# Altium footprint library Drosel.PcbLib: 92 footprints (part 5 of 6)
Each footprint in its own frame and in the unit in brackets; x right, y up, seen from the top. Pads: shape width x height; smd on the part's side, far side on the other; paste and mask are expansions set on the pad; w line width, h text height; cw(c..) or ccw(c..) is an arc to the next point about the centre after c.
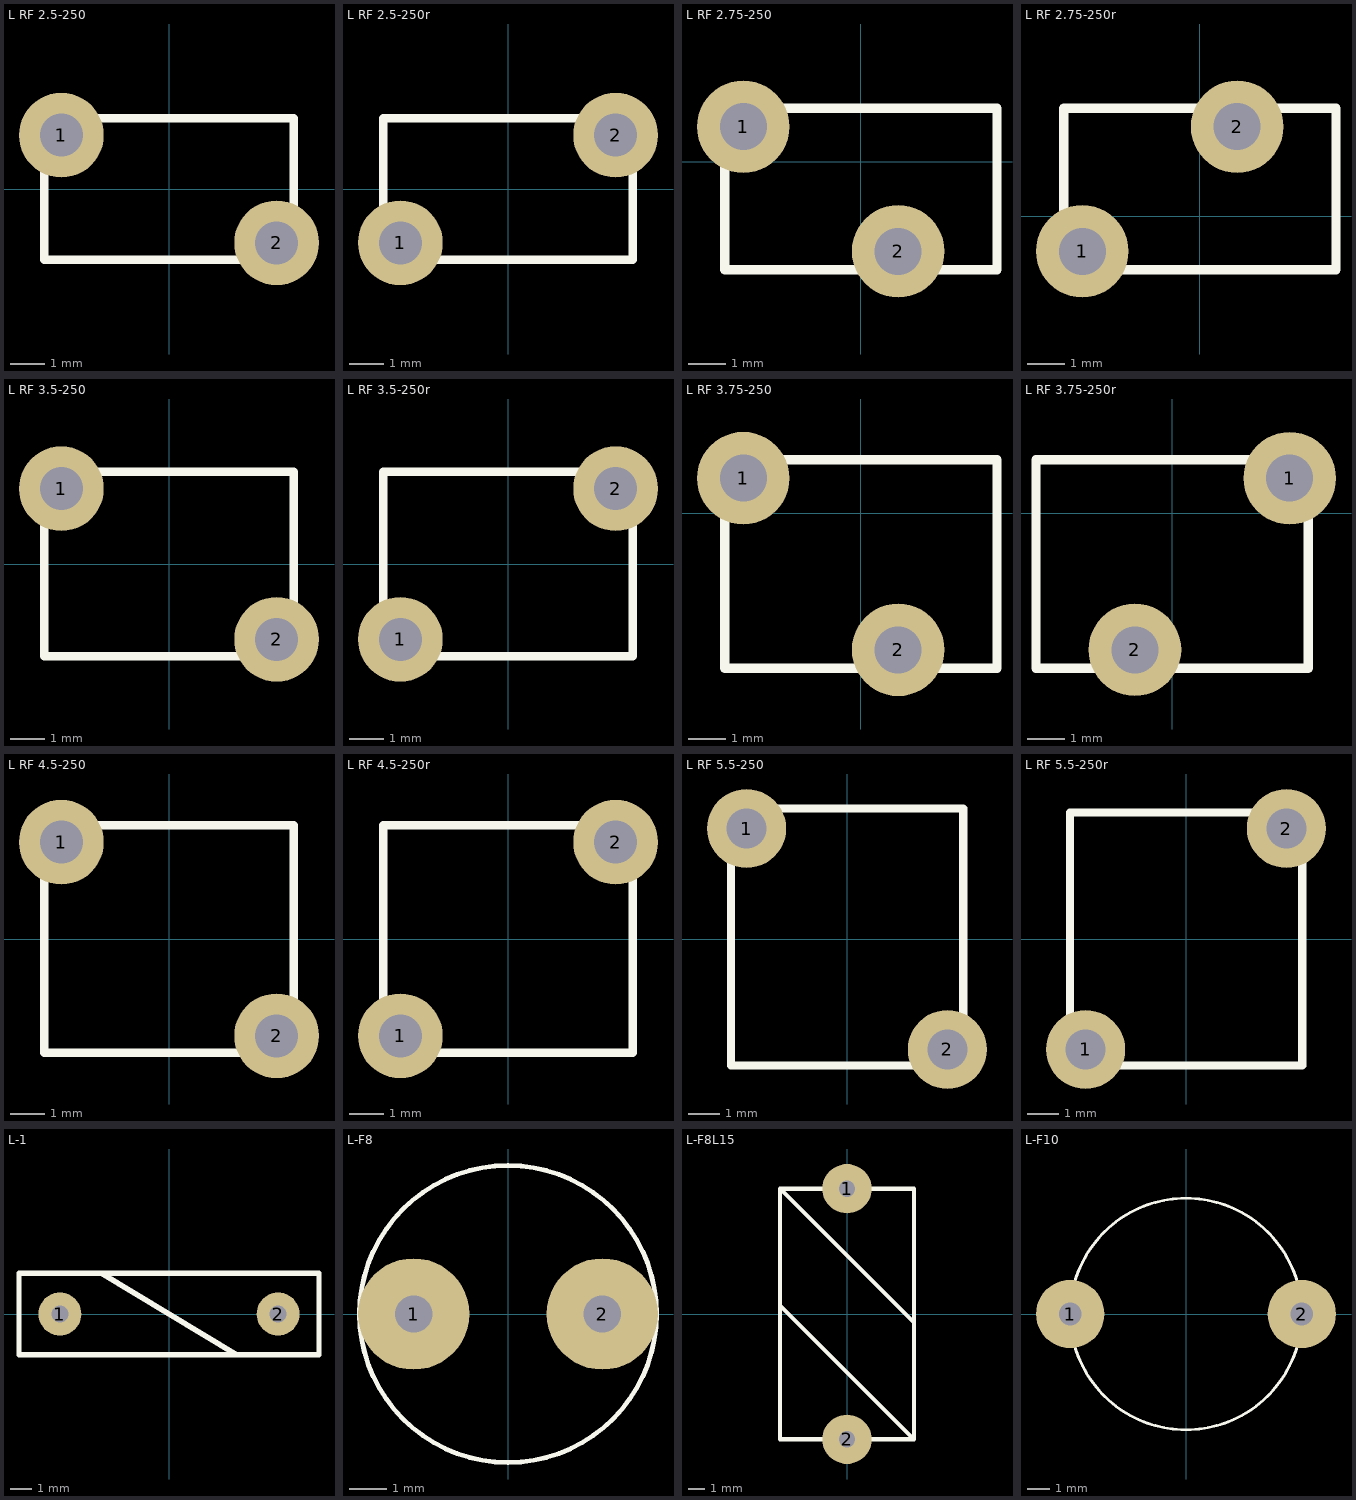
[diagram p4: the footprints below, top view; thin cyan lines are the x and y axes]

## L RF 2.5-250 [mm]
pads (2):
  round 2.5 hole 1.27: 1(-3.175,1.587) 2(3.175,-1.587)
Top Overlay:
  lines w0.254: -3.675,-2.087 3.675,-2.087 3.675,2.088 -3.675,2.088 -3.675,-2.087
3D body: height 7.67, standoff -5, extent -3.675,-2.087 3.675,2.088

## L RF 2.5-250r [mm]
pads (2):
  round 2.5 hole 1.27: 1(-3.175,-1.587) 2(3.175,1.587)
Top Overlay:
  lines w0.254: -3.675,-2.087 -3.675,2.088 3.675,2.088 3.675,-2.087 -3.675,-2.087
3D body: height 7.67, standoff -5, extent -3.675,-2.087 3.675,2.088

## L RF 2.75-250 [mm]
pads (2):
  round 2.5 hole 1.27: 1(-3.175,0.953) 2(1.003,-2.413)
Top Overlay:
  lines w0.254: -3.675,-2.912 -3.675,1.453 3.674,1.453 3.674,-2.912 -3.675,-2.912
3D body: height 7.67, standoff -3.47, extent -3.675,-2.912 3.674,1.452

## L RF 2.75-250r [mm]
pads (2):
  round 2.5 hole 1.27: 1(-3.175,-0.953) 2(1.003,2.413)
Top Overlay:
  lines w0.254: -3.675,-1.452 -3.675,2.912 3.674,2.912 3.674,-1.452 -3.675,-1.452
3D body: height 7.67, standoff -3.47, extent -3.675,-1.452 3.674,2.912

## L RF 3.5-250 [mm]
pads (2):
  round 2.5 hole 1.27: 1(-3.175,2.222) 2(3.175,-2.222)
Top Overlay:
  lines w0.254: -3.675,-2.722 -3.675,2.723 3.675,2.723 3.675,-2.722 -3.675,-2.722
3D body: height 7.67, standoff -5, extent -3.675,-2.722 3.675,2.723

## L RF 3.5-250r [mm]
pads (2):
  round 2.5 hole 1.27: 1(-3.175,-2.222) 2(3.175,2.222)
Top Overlay:
  lines w0.254: -3.675,-2.722 -3.675,2.723 3.675,2.723 3.675,-2.722 -3.675,-2.722
3D body: height 7.67, standoff -5, extent -3.675,-2.722 3.675,2.723

## L RF 3.75-250 [mm]
pads (2):
  round 2.5 hole 1.27: 1(-3.175,0.953) 2(1.003,-3.683)
Top Overlay:
  lines w0.254: -3.675,-4.182 -3.675,1.452 3.674,1.452 3.674,-4.182 -3.675,-4.182
3D body: height 7.67, standoff -3.47, extent -3.675,-4.182 3.674,1.452

## L RF 3.75-250r [mm]
pads (2):
  round 2.5 hole 1.27: 1(3.175,0.953) 2(-1.003,-3.683)
Top Overlay:
  lines w0.254: -3.675,-4.182 -3.675,1.452 3.674,1.452 3.674,-4.182 -3.675,-4.182
3D body: height 3.67, standoff -7.47, extent -3.674,-4.182 3.675,1.453

## L RF 4.5-250 [mm]
pads (2):
  round 2.5 hole 1.27: 1(-3.175,2.857) 2(3.175,-2.857)
Top Overlay:
  lines w0.254: -3.675,-3.357 -3.675,3.358 3.675,3.358 3.675,-3.357 -3.675,-3.357
3D body: height 7.67, standoff -5, extent -3.675,-3.357 3.675,3.358

## L RF 4.5-250r [mm]
pads (2):
  round 2.5 hole 1.27: 1(-3.175,-2.857) 2(3.175,2.857)
Top Overlay:
  lines w0.254: -3.675,-3.357 3.675,-3.357 3.675,3.358 -3.675,3.358 -3.675,-3.357
3D body: height 7.67, standoff -5, extent -3.675,-3.357 3.675,3.358

## L RF 5.5-250 [mm]
pads (2):
  round 2.5 hole 1.27: 1(-3.175,3.492) 2(3.175,-3.492)
Top Overlay:
  lines w0.254: -3.675,-3.992 3.675,-3.992 3.675,4.127 -3.675,4.127 -3.675,-3.992
3D body: height 7.67, standoff -5, extent -3.675,-3.992 3.675,3.993

## L RF 5.5-250r [mm]
pads (2):
  round 2.5 hole 1.27: 1(-3.175,-3.492) 2(3.175,3.492)
Top Overlay:
  lines w0.254: -3.675,-3.992 3.675,-3.992 3.675,3.993 -3.675,3.993 -3.675,-3.992
3D body: height 7.67, standoff -5, extent -3.675,-3.992 3.675,3.993

## L-1 [mm]
pads (2):
  round 2 hole 0.8: 1(-5.08,0) 2(5.08,0)
Top Overlay:
  lines w0.254: -3.175,1.905 0,0 3.175,-1.905 ; -6.985,-1.905 -6.985,1.905 6.985,1.905 6.985,-1.905 -6.985,-1.905

## L-F8 [mm]
pads (2):
  round 3 hole 1: 1(-2.54,0) 2(2.54,0)
Top Overlay:
  circle w0.127: c0,0 r4

## L-F8L15 [mm]
pads (2):
  round 3 hole 1: 1(0,7.62) 2(0,-7.62)
Top Overlay:
  lines w0.254: -4.064,0.508 4.064,-7.62 ; 4.064,-0.508 -4.064,7.62 ; -4.064,7.62 4.064,7.62 4.064,-7.62 ; -4.064,7.62 -4.064,-7.62 4.064,-7.62

## L-F10 [mm]
pads (2):
  round 3 hole 1: 1(-5.08,0) 2(5.08,0)
Top Overlay:
  circle w0.127: c0,0 r5.08